# Altium footprint library Chip2220.PcbLib: 1 footprints
Each footprint in its own frame and in the unit in brackets; x right, y up, seen from the top. Pads: shape width x height; smd on the part's side, far side on the other; paste and mask are expansions set on the pad; w line width, h text height; cw(c..) or ccw(c..) is an arc to the next point about the centre after c.
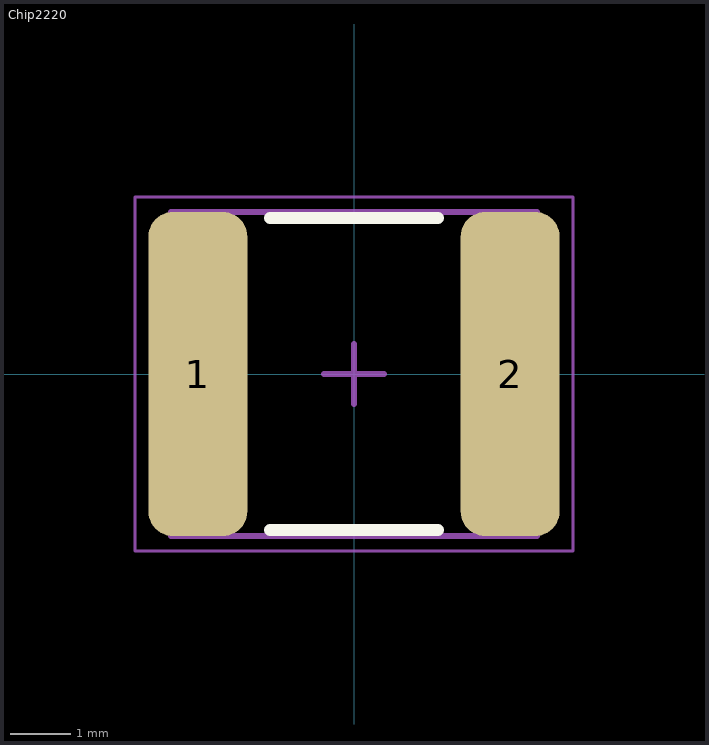
[diagram p0: the footprint, top view; thin cyan lines are the x and y axes]

## Chip2220 [mm] "Chip Resistor, 2-Leads, Body 5.70x5.00mm, IPC Medium Density"
height 2.7
pads (2):
  rrect50% 1.65x5.4 smd: 1(-2.6,0) 2(2.6,0)
Top Overlay:
  lines w0.2: -1.4,-2.6 1.4,-2.6 ; -1.4,2.6 1.4,2.6
Mechanical 13:
  lines w0.1: -3.05,-2.7 -3.05,2.7 3.05,2.7 3.05,-2.7 -3.05,-2.7
Mechanical 15:
  lines w0.05: -3.65,-2.95 -3.65,2.95 3.65,2.95 3.65,-2.95 -3.65,-2.95
  lines w0.1: -0.5,0 0.5,0 ; 0,-0.5 0,0.5
Mechanical 17:
  lines w0.05: -3.65,-2.95 3.65,-2.95 3.65,2.95 -3.65,2.95 -3.65,-2.95
  text ".Designator" at -3.143,-0.623 h1
Mechanical 19:
  lines w0.05: -3.65,-2.95 3.65,-2.95 3.65,2.95 -3.65,2.95 -3.65,-2.95
  text ".Comment" at -3.143,-0.623 h1
3D body: height 2.7, standoff 0, extent -2.45,-2.7 2.45,2.7
3D body: height 2.7, standoff 0, extent -3.05,-2.7 -2.45,2.7
3D body: height 2.7, standoff 0, extent 2.45,-2.7 3.05,2.7